# Altium schematic symbol library Diode_Lumex_SML-LX1206GC-TR_eec.SchLib: 1 symbol
Pins are listed as number, name and electrical type; pins without a type are passive.

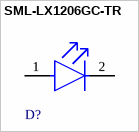
[diagram p0: symbol SML-LX1206GC-TR]

## SML-LX1206GC-TR
designator D?  (value not drawn)
pins: 1 A, 2 C